# Altium footprint library Hirose-DF13.PcbLib: 27 footprints (part 2 of 2)
Each footprint in its own frame and in the unit in brackets; x right, y up, seen from the top. Pads: shape width x height; smd on the part's side, far side on the other; paste and mask are expansions set on the pad; w line width, h text height; cw(c..) or ccw(c..) is an arc to the next point about the centre after c.
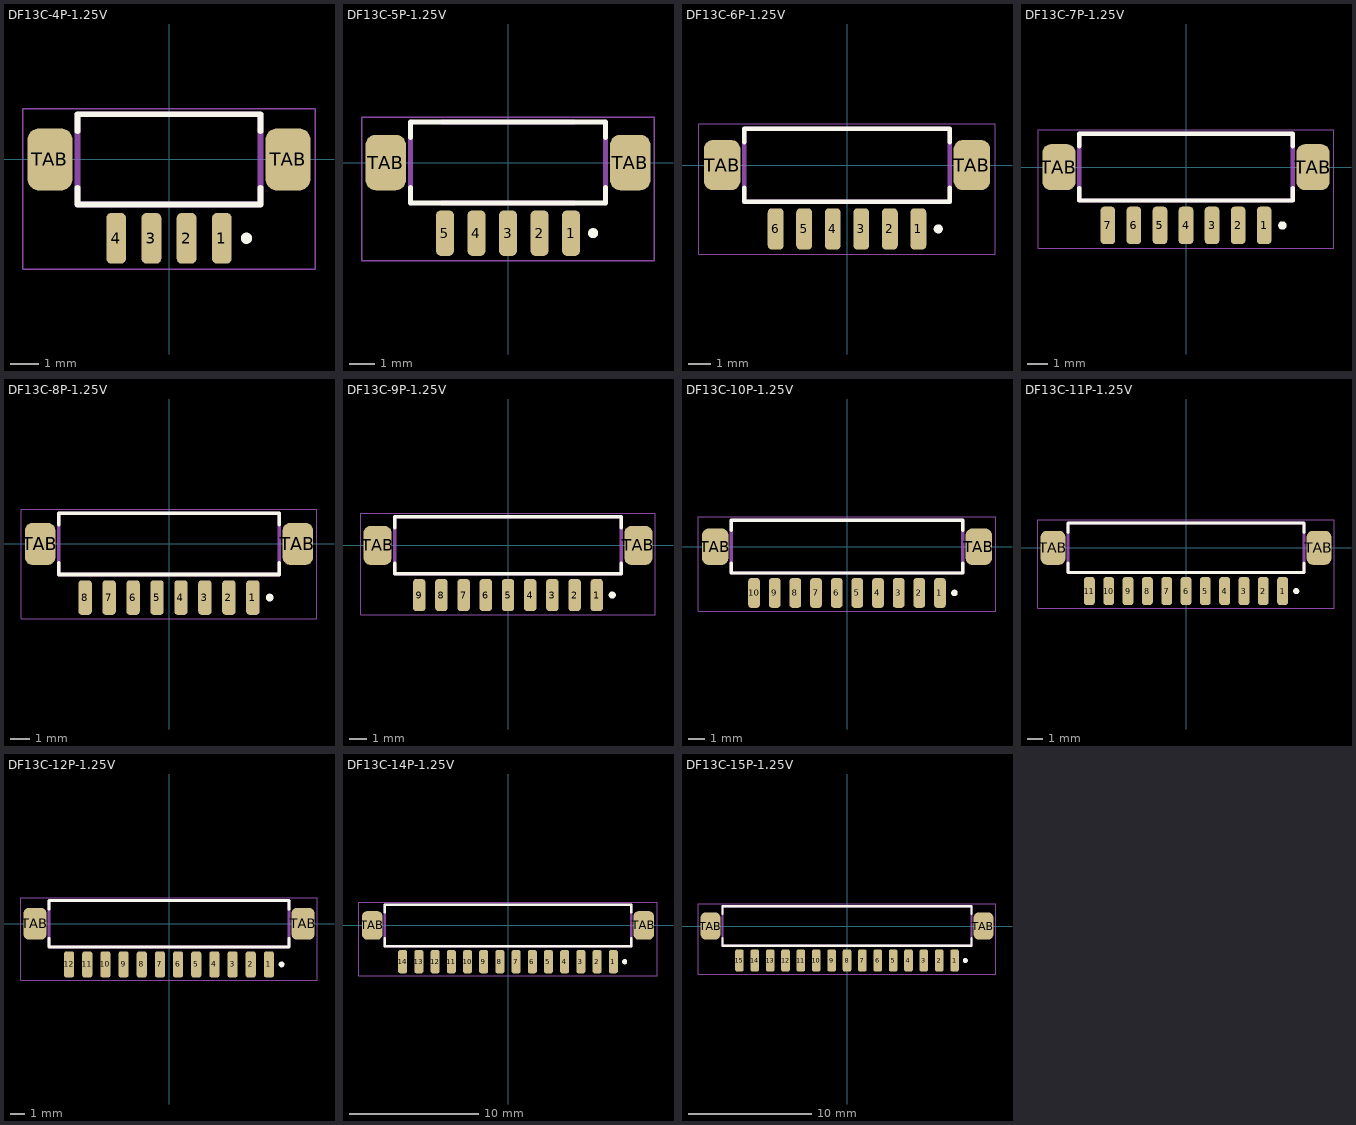
[diagram p1: the footprints below, top view; thin cyan lines are the x and y axes]

## DF13C-4P-1.25V [mm]
pads (6):
  rrect50% 0.7x1.8 smd: 1(1.875,-2.8) 2(0.625,-2.8) 3(-0.625,-2.8) 4(-1.875,-2.8)
  rrect50% 1.6x2.2 smd: TAB(-4.225,0) TAB(4.225,0)
Top Overlay:
  circle w0.2: c2.75,-2.8 r0.1
  lines w0.2: -3.25,-1 -3.25,-1.6 3.25,-1.6 3.25,-1 ; -3.25,1 -3.25,1.6 3.25,1.6 3.25,1
Mechanical 13:
  lines w0.2: -3.25,-1.6 3.25,-1.6 3.25,1.6 -3.25,1.6 -3.25,-1.6
Mechanical 15:
  lines w0.05: -5.2,-3.9 5.2,-3.9 5.2,1.8 -5.2,1.8 -5.2,-3.9
  text ".Designator" at -3.3,0.3 h1.5
3D body "DF13C-4P-1.25V.stp": height 4.8, standoff 0, extent -4.825,-3.2 4.825,1.7

## DF13C-5P-1.25V [mm]
pads (7):
  rrect50% 0.7x1.8 smd: 1(2.5,-2.8) 2(1.25,-2.8) 3(0,-2.8) 4(-1.25,-2.8) 5(-2.5,-2.8)
  rrect50% 1.6x2.2 smd: TAB(-4.85,0) TAB(4.85,0)
Top Overlay:
  circle w0.2: c3.375,-2.8 r0.1
  lines w0.2: -3.875,-1 -3.875,-1.6 3.875,-1.6 3.875,-1 ; -3.875,1 -3.875,1.6 3.875,1.6 3.875,1
Mechanical 13:
  lines w0.2: -3.875,-1.6 -3.875,1.6 ; -2.625,-1.6 2.625,-1.6 ; -2.625,1.6 2.625,1.6 ; 3.875,-1.6 3.875,1.6
Mechanical 15:
  lines w0.05: -5.8,-3.9 5.8,-3.9 5.8,1.8 -5.8,1.8 -5.8,-3.9
  text ".Designator" at -3.3,0.3 h1.5
3D body "DF13C-5P-1.25V.stp": height 4.8, standoff 0, extent -5.45,-3.217 5.45,1.683

## DF13C-6P-1.25V [mm]
pads (8):
  rrect50% 0.7x1.8 smd: 1(3.125,-2.8) 2(1.875,-2.8) 3(0.625,-2.8) 4(-0.625,-2.8) 5(-1.875,-2.8) 6(-3.125,-2.8)
  rrect50% 1.6x2.2 smd: TAB(-5.475,0) TAB(5.475,0)
Top Overlay:
  circle w0.2: c4,-2.8 r0.1
  lines w0.2: -4.5,-1 -4.5,-1.6 4.5,-1.6 4.5,-1 ; -4.5,1 -4.5,1.6 4.5,1.6 4.5,1
Mechanical 13:
  lines w0.2: -4.5,-1.6 -4.5,1.6 4.5,1.6 4.5,-1.6 -4.5,-1.6
Mechanical 15:
  lines w0.05: -6.5,-3.9 -6.5,1.8 6.5,1.8 6.5,-3.9 -6.5,-3.9
  text ".Designator" at -3.3,0.3 h1.5
3D body "DF13C-6P-1.25V.stp": height 4.8, standoff 0, extent -6.075,-3.2 6.075,1.7

## DF13C-7P-1.25V [mm]
pads (9):
  rrect50% 0.7x1.8 smd: 1(3.75,-2.8) 2(2.5,-2.8) 3(1.25,-2.8) 4(0,-2.8) 5(-1.25,-2.8) 6(-2.5,-2.8) 7(-3.75,-2.8)
  rrect50% 1.6x2.2 smd: TAB(-6.1,0) TAB(6.1,0)
Top Overlay:
  circle w0.2: c4.625,-2.8 r0.1
  lines w0.2: -5.125,-1 -5.125,-1.6 5.125,-1.6 5.125,-1 ; -5.125,1 -5.125,1.6 5.125,1.6 5.125,1
Mechanical 13:
  lines w0.2: -5.125,-1.6 -5.125,1.6 5.125,1.6 5.125,-1.6 -5.125,-1.6
Mechanical 15:
  lines w0.05: -7.1,-3.9 -7.1,1.8 7.1,1.8 7.1,-3.9 -7.1,-3.9
  text ".Designator" at -2.05,0.3 h1.5
3D body "DF13C-7P-1.25V.stp": height 4.8, standoff 0, extent -6.7,-3.2 6.7,1.7

## DF13C-8P-1.25V [mm]
pads (10):
  rrect50% 0.7x1.8 smd: 1(4.375,-2.8) 2(3.125,-2.8) 3(1.875,-2.8) 4(0.625,-2.8) 5(-0.625,-2.8) 6(-1.875,-2.8) 7(-3.125,-2.8) 8(-4.375,-2.8)
  rrect50% 1.6x2.2 smd: TAB(-6.725,0) TAB(6.725,0)
Top Overlay:
  circle w0.2: c5.25,-2.8 r0.1
  lines w0.2: -5.75,-1 -5.75,-1.6 5.75,-1.6 5.75,-1 ; -5.75,1 -5.75,1.6 5.75,1.6 5.75,1
Mechanical 13:
  lines w0.2: -5.75,-1.6 -5.75,1.6 5.75,1.6 5.75,-1.6 -5.75,-1.6
Mechanical 15:
  lines w0.05: -7.7,-3.9 -7.7,1.8 7.7,1.8 7.7,-3.9 -7.7,-3.9
  text ".Designator" at -3.7,0.3 h1.5
3D body "DF13C-8P-1.25V.stp": height 4.8, standoff 0, extent -7.325,-3.2 7.325,1.7

## DF13C-9P-1.25V [mm]
pads (11):
  rrect50% 0.7x1.8 smd: 1(5,-2.8) 2(3.75,-2.8) 3(2.5,-2.8) 4(1.25,-2.8) 5(0,-2.8) 6(-1.25,-2.8) 7(-2.5,-2.8) 8(-3.75,-2.8) 9(-5,-2.8)
  rrect50% 1.6x2.2 smd: TAB(-7.35,0) TAB(7.35,0)
Top Overlay:
  circle w0.2: c5.875,-2.8 r0.1
  lines w0.2: -6.375,-1 -6.375,-1.6 6.375,-1.6 6.375,-1 ; -6.375,1 -6.375,1.6 6.375,1.6 6.375,1
Mechanical 13:
  lines w0.2: -6.375,-1.6 -6.375,1.6 6.375,1.6 6.375,-1.6 -6.375,-1.6
Mechanical 15:
  lines w0.05: -8.3,-3.9 -8.3,1.8 8.3,1.8 8.3,-3.9 -8.3,-3.9
  text ".Designator" at -3.75,0.625 h1.5
3D body "DF13C-9P-1.25V.stp": height 4.8, standoff 0, extent -7.95,-3.2 7.95,1.7

## DF13C-10P-1.25V [mm]
pads (12):
  rrect50% 0.7x1.8 smd: 1(5.625,-2.8) 2(4.375,-2.8) 3(3.125,-2.8) 4(1.875,-2.8) 5(0.625,-2.8) 6(-0.625,-2.8) 7(-1.875,-2.8) 8(-3.125,-2.8) 9(-4.375,-2.8) 10(-5.625,-2.8)
  rrect50% 1.6x2.2 smd: TAB(-7.975,0) TAB(7.975,0)
Top Overlay:
  circle w0.2: c6.5,-2.8 r0.1
  lines w0.2: -7,-1 -7,-1.6 7,-1.6 7,-1 ; -7,1 -7,1.6 7,1.6 7,1
Mechanical 13:
  lines w0.2: -7,-1.6 7,-1.6 7,1.6 -7,1.6 -7,-1.6
Mechanical 15:
  lines w0.05: -9,-3.9 9,-3.9 9,1.8 -9,1.8 -9,-3.9
  text ".Designator" at -2.45,0.3 h1.5
3D body "DF13C-10P-1.25V.stp": height 4.8, standoff 0, extent -8.575,-3.2 8.575,1.7

## DF13C-11P-1.25V [mm]
pads (13):
  rrect50% 0.7x1.8 smd: 1(6.25,-2.8) 2(5,-2.8) 3(3.75,-2.8) 4(2.5,-2.8) 5(1.25,-2.8) 6(0,-2.8) 7(-1.25,-2.8) 8(-2.5,-2.8) 9(-3.75,-2.8) 10(-5,-2.8) 11(-6.25,-2.8)
  rrect50% 1.6x2.2 smd: TAB(-8.6,0) TAB(8.6,0)
Top Overlay:
  circle w0.2: c7.125,-2.8 r0.1
  lines w0.2: -7.625,-1 -7.625,-1.6 7.625,-1.6 7.625,-1 ; -7.625,1 -7.625,1.6 7.625,1.6 7.625,1
Mechanical 13:
  lines w0.2: -7.625,-1.6 7.625,-1.6 7.625,1.6 -7.625,1.6 -7.625,-1.6
Mechanical 15:
  lines w0.05: -9.6,-3.9 9.6,-3.9 9.6,1.8 -9.6,1.8 -9.6,-3.9
  text ".Designator" at -2.7,0.6 h1.5
3D body "DF13C-11P-1.25V.stp": height 4.8, standoff 0, extent -9.2,-3.2 9.2,1.7

## DF13C-12P-1.25V [mm]
pads (14):
  rrect50% 0.7x1.8 smd: 1(6.875,-2.8) 2(5.625,-2.8) 3(4.375,-2.8) 4(3.125,-2.8) 5(1.875,-2.8) 6(0.625,-2.8) 7(-0.625,-2.8) 8(-1.875,-2.8) 9(-3.125,-2.8) 10(-4.375,-2.8) 11(-5.625,-2.8) 12(-6.875,-2.8)
  rrect50% 1.6x2.2 smd: TAB(-9.225,0) TAB(9.225,0)
Top Overlay:
  circle w0.2: c7.75,-2.8 r0.1
  lines w0.2: -8.25,-1 -8.25,-1.6 8.25,-1.6 8.25,-1 ; -8.25,1 -8.25,1.6 8.25,1.6 8.25,1
Mechanical 13:
  lines w0.2: -8.25,-1.6 -8.25,1.6 8.25,1.6 8.25,-1.6 -8.25,-1.6
Mechanical 15:
  lines w0.05: -10.2,-3.9 -10.2,1.8 10.2,1.8 10.2,-3.9 -10.2,-3.9
  text ".Designator" at -1.2,0.3 h1.5
3D body "DF13C-12P-1.25V.stp": height 4.8, standoff 0, extent -9.825,-3.2 9.825,1.7

## DF13C-14P-1.25V [mm]
pads (16):
  rrect50% 0.7x1.8 smd: 1(8.125,-2.8) 2(6.875,-2.8) 3(5.625,-2.8) 4(4.375,-2.8) 5(3.125,-2.8) 6(1.875,-2.8) 7(0.625,-2.8) 8(-0.625,-2.8) 9(-1.875,-2.8) 10(-3.125,-2.8) 11(-4.375,-2.8) 12(-5.625,-2.8) 13(-6.875,-2.8) 14(-8.125,-2.8)
  rrect50% 1.6x2.2 smd: TAB(-10.475,0) TAB(10.475,0)
Top Overlay:
  circle w0.2: c9,-2.8 r0.1
  lines w0.2: -9.5,-1 -9.5,-1.6 9.5,-1.6 9.5,-1 ; -9.5,1 -9.5,1.6 9.5,1.6 9.5,1
Mechanical 13:
  lines w0.2: -9.5,-1.6 9.5,-1.6 9.5,1.6 -9.5,1.6 -9.5,-1.6
Mechanical 15:
  lines w0.05: -11.5,-3.9 11.5,-3.9 11.5,1.8 -11.5,1.8 -11.5,-3.9
  text ".Designator" at -3.125,0.625 h1.5
3D body "DF13C-14P-1.25V.stp": height 4.8, standoff 0, extent -11.075,-3.2 11.075,1.7

## DF13C-15P-1.25V [mm]
pads (17):
  rrect50% 0.7x1.8 smd: 1(8.75,-2.8) 2(7.5,-2.8) 3(6.25,-2.8) 4(5,-2.8) 5(3.75,-2.8) 6(2.5,-2.8) 7(1.25,-2.8) 8(0,-2.8) 9(-1.25,-2.8) 10(-2.5,-2.8) 11(-3.75,-2.8) 12(-5,-2.8) 13(-6.25,-2.8) 14(-7.5,-2.8) 15(-8.75,-2.8)
  rrect50% 1.6x2.2 smd: TAB(-11.1,0) TAB(11.1,0)
Top Overlay:
  circle w0.2: c9.625,-2.8 r0.1
  lines w0.2: -10.125,-1 -10.125,-1.6 10.125,-1.6 10.125,-1 ; -10.125,1 -10.125,1.6 10.125,1.6 10.125,1
Mechanical 13:
  lines w0.2: -10.125,-1.6 -10.125,1.6 10.125,1.6 10.125,-1.6 -10.125,-1.6
Mechanical 15:
  lines w0.05: -12.1,-3.9 -12.1,1.8 12.1,1.8 12.1,-3.9 -12.1,-3.9
  text ".Designator" at -3.75,0.625 h1.5
3D body "DF13C-15P-1.25V.stp": height 4.8, standoff 0, extent -11.7,-3.2 11.7,1.7